# EAGLE library part LED_TRIPLE (library Bauteile)
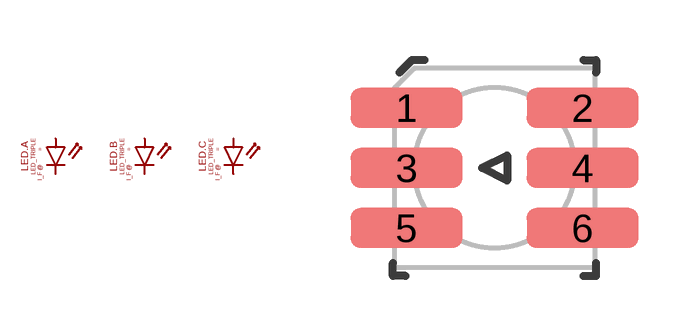
[diagram p172: symbol with the pads of WUERTH_SMTW_5050; footprint WUERTH_SMTW_5050]

Designator prefix LED; gates .A=LED .B=LED .C=LED

## LED_TRIPLE(WUERTH_SMTW_5050)  [WUERTH_SMTW_5050]
1  .A:C
2  .A:A
3  .B:C
4  .B:A
5  .C:C
6  .C:A

## Footprint WUERTH_SMTW_5050 (pad centres in mm)
smd 2.8 x 1: 1 -2.2,1.5; 2 2.2,1.5; 3 -2.2,0; 4 2.2,0; 5 -2.2,-1.5; 6 2.2,-1.5